# Altium schematic symbol library amc0x06m05-q1.SchLib: 1 symbol
Pins are listed as number, name and electrical type; pins without a type are passive.

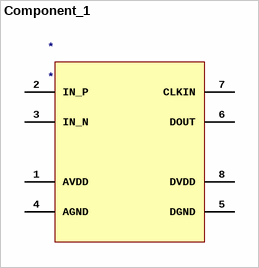
[diagram p0: symbol Component_1]

## Component_1
designator *
pins: 1 AVDD, 2 IN_P, 3 IN_N, 4 AGND, 5 DGND, 6 DOUT, 7 CLKIN, 8 DVDD